# Altium footprint library PAM8403.PcbLib: 1 footprints
Each footprint in its own frame and in the unit in brackets; x right, y up, seen from the top. Pads: shape width x height; smd on the part's side, far side on the other; paste and mask are expansions set on the pad; w line width, h text height; cw(c..) or ccw(c..) is an arc to the next point about the centre after c.
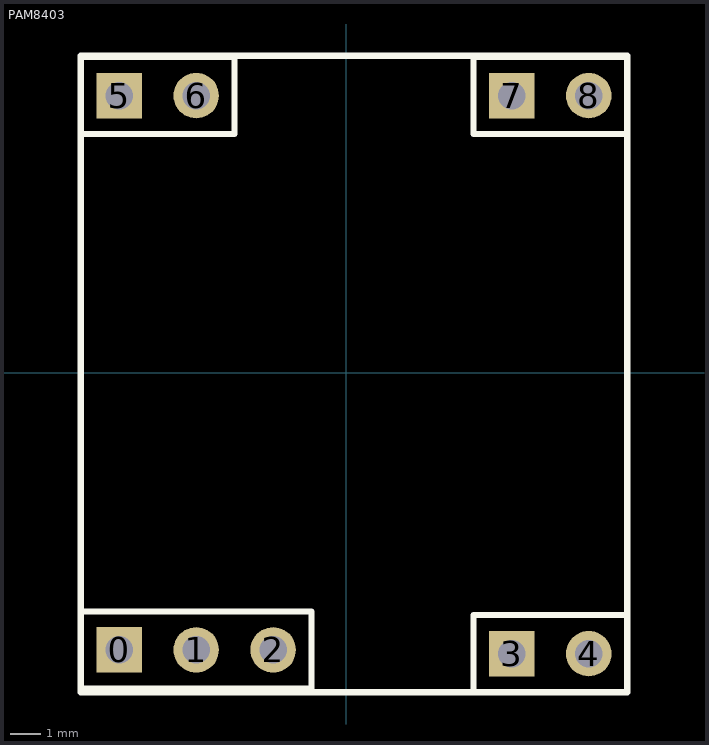
[diagram p0: the footprint, top view; thin cyan lines are the x and y axes]

## PAM8403 [mm]
pads (9):
  rect 1.5x1.5 hole 0.9: 0(-7.493,-9.144) 3(5.461,-9.271) 5(-7.493,9.144) 7(5.461,9.144)
  round 1.5 hole 0.9: 1(-4.953,-9.144) 2(-2.413,-9.144) 4(8.001,-9.271) 6(-4.953,9.144) 8(8.001,9.144)
Top Overlay:
  lines w0.2: -8.763,-10.414 -8.763,-7.874 -1.143,-7.874 -1.143,-10.414 -8.763,-10.414 ; -8.763,7.874 -3.683,7.874 -3.683,10.414 -8.763,10.414 -8.763,7.874 ; 4.191,-10.541 9.271,-10.541 9.271,-8.001 4.191,-8.001 4.191,-10.541 ; 4.191,7.874 9.271,7.874 9.271,10.414 4.191,10.414 4.191,7.874
  lines w0.203: 9.237,-10.541 -8.763,-10.541 -8.763,10.459 9.237,10.459 ; 9.271,-10.541 9.271,10.459
Mechanical 1:
  text "Pam8403" at -2.667,-0.508 h0.89
3D body: height 0.25, standoff 0, extent -8.89,-10.541 9.271,10.541